# Altium schematic symbol library DF52.SchLib: 2 symbols
Pins are listed as number, name and electrical type; pins without a type are passive.

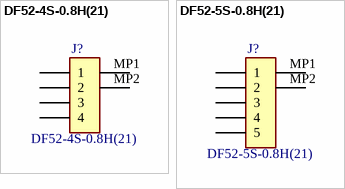
[diagram p0: symbols DF52-4S-0.8H(21) to DF52-5S-0.8H(21)]

## DF52-4S-0.8H(21)
designator J?
Hirose DF52 52 Series 0.8mm Pitch 4 Way Right Angle Female FPC Connector; Geometry.Height: 1mm; Mouser Part Number: 798-DF52-4S-0.8H21; Mouser Price/Stock: https://www.mouser.co.uk/ProductDetail/Hirose-Connector/DF52-4S-0.8H21?qs=%2FKR40Cd6GUqI6DynPcUU4w%3D%3D; Manufacturer_Name: Hirose; Manufacturer_Part_Number: DF52-4S-0.8H(21); Datasheet Link: https://www.hirose.com/product/en/products/DF52/DF52-5S-0.8H%2821%29/; Supplier 1: Rs; Supplier Part Number 1: 1620926
footprint DF524S08H21
pins: 1, 2, 3, 4, MP1, MP2

## DF52-5S-0.8H(21)
designator J?
Hirose DF52 52 Series 0.8mm Pitch 5 Way Right Angle Female FPC Connector; Geometry.Height: 1mm; Mouser Part Number: 798-DF52-5S-0.8H21; Mouser Price/Stock: https://www.mouser.co.uk/ProductDetail/Hirose-Connector/DF52-5S-0.8H21?qs=%2FKR40Cd6GUoIdnvQLqKyqQ%3D%3D; Manufacturer_Name: Hirose; Manufacturer_Part_Number: DF52-5S-0.8H(21); Datasheet Link: https://www.hirose.com/product/en/products/DF52/DF52-5S-0.8H%2821%29/; Supplier 1: Farnell; Supplier Part Number 1: 2853823
footprint DF525S08H21
pins: 1, 2, 3, 4, 5, MP1, MP2